# EAGLE library part PCM1804 (library Hardware)
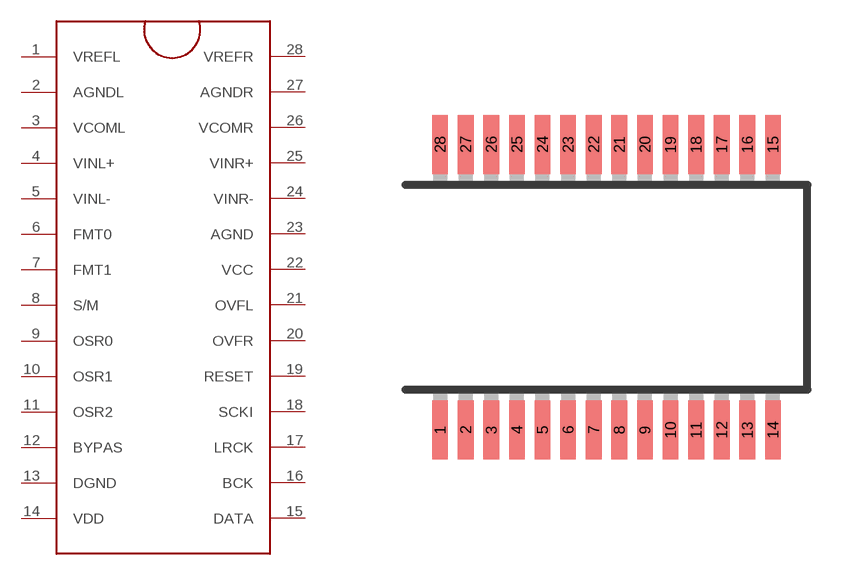
[diagram p5: symbol with the pads of SSOP28; footprint SSOP28]

Designator prefix -

## PCM1804  [SSOP28]
1  VREFL
2  AGNDL
3  VCOML
4  VINL+
5  VINL-
6  FMT0
7  FMT1
8  S/M
9  OSR0
10  OSR1
11  OSR2
12  BYPAS
13  DGND
14  VDD
15  DATA
16  BCK
17  LRCK
18  SCKI
19  RESET
20  OVFR
21  OVFL
22  VCC
23  AGND
24  VINR-
25  VINR+
26  VCOMR
27  AGNDR
28  VREFR

## Footprint SSOP28 (pad centres in mm)
Shrink Small Outline Package package type SS
smd 0.4 x 1.5: 1 -4.225,-3.625; 2 -3.575,-3.625; 3 -2.925,-3.625; 4 -2.275,-3.625; 5 -1.625,-3.625; 6 -0.975,-3.625; 7 -0.325,-3.625; 8 0.325,-3.625; 9 0.975,-3.625; 10 1.625,-3.625; 11 2.275,-3.625; 12 2.925,-3.625; 13 3.575,-3.625; 14 4.225,-3.625; 15 4.225,3.625; 16 3.575,3.625; 17 2.925,3.625; 18 2.275,3.625; 19 1.625,3.625; 20 0.975,3.625; 21 0.325,3.625; 22 -0.325,3.625; 23 -0.975,3.625; 24 -1.625,3.625; 25 -2.275,3.625; 26 -2.925,3.625; 27 -3.575,3.625; 28 -4.225,3.625